# EAGLE library part ADA4853-2 (library analog-devices)
Low Power, Rail-to-Rail Output, Video Op Amps with Ultralow Power Source: http://www.analog.com/static/imported-files/data_sheets/ADA4853-1_4853-2_4853-3.pdf
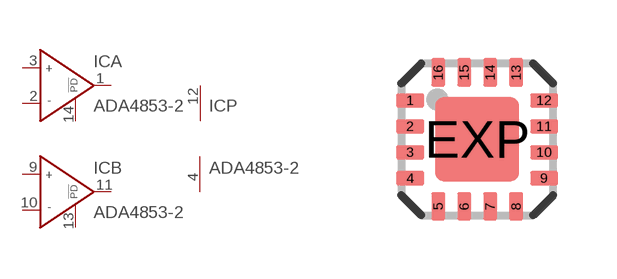
[diagram p121: symbol with the pads of LFCSP16; footprint LFCSP16]

Designator prefix IC; gates A=OP_PD B=OP_PD P=PWR+-

## ADA4853-2VQ (OC_FARNELL: unknown; OC_NEWARK: unknown)  [LFCSP16]
1  A:OUT  out
2  A:IN-  in
3  A:IN+  in
4  P:V-  pwr
9  B:IN+  in
10  B:IN-  in
11  B:OUT  out
12  P:V+  pwr
13  B:!POWERDOWN  pas
14  A:!POWERDOWN  pas

## Footprint LFCSP16 (pad centres in mm)
16-Terminal Leadless Frame Chip Scale Package [LFCSP] (CP) Source: Analog Devices .. 780914713ADD8704_0.pdf
smd 0.7 x 0.35: 1 -1.675,0.975; 2 -1.675,0.325; 3 -1.675,-0.325; 4 -1.675,-0.975; 9 1.675,-0.975; 10 1.675,-0.325; 11 1.675,0.325; 12 1.675,0.975
smd 0.35 x 0.7: 5 -0.975,-1.675; 6 -0.325,-1.675; 7 0.325,-1.675; 8 0.975,-1.675; 13 0.975,1.675; 14 0.325,1.675; 15 -0.325,1.675; 16 -0.975,1.675
smd 2.1 x 2.1: EXP 0,0